# Altium integrated library NUP4301MR6T1G.IntLib: 2 symbols
Pins are listed as number, name and electrical type; pins without a type are passive.

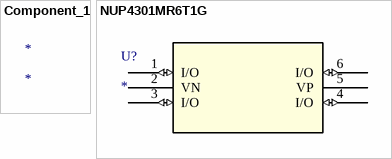
[diagram p0: symbols Component_1 to NUP4301MR6T1G]

## Component_1
designator *

## NUP4301MR6T1G
designator U?
No Description Available; Mfr_Name: onsemi; RefDes: RefDes; Type: Type
footprint SC74-6_3P1X1P7_ONS
pins: 1 I/O (io), 2 VN (power), 3 I/O (io), 4 I/O (io), 5 VP (power), 6 I/O (io)